# Altium integrated library WE-GF_rev15b.intlib: 65 symbols
Pins are listed as number, name and electrical type; pins without a type are passive.

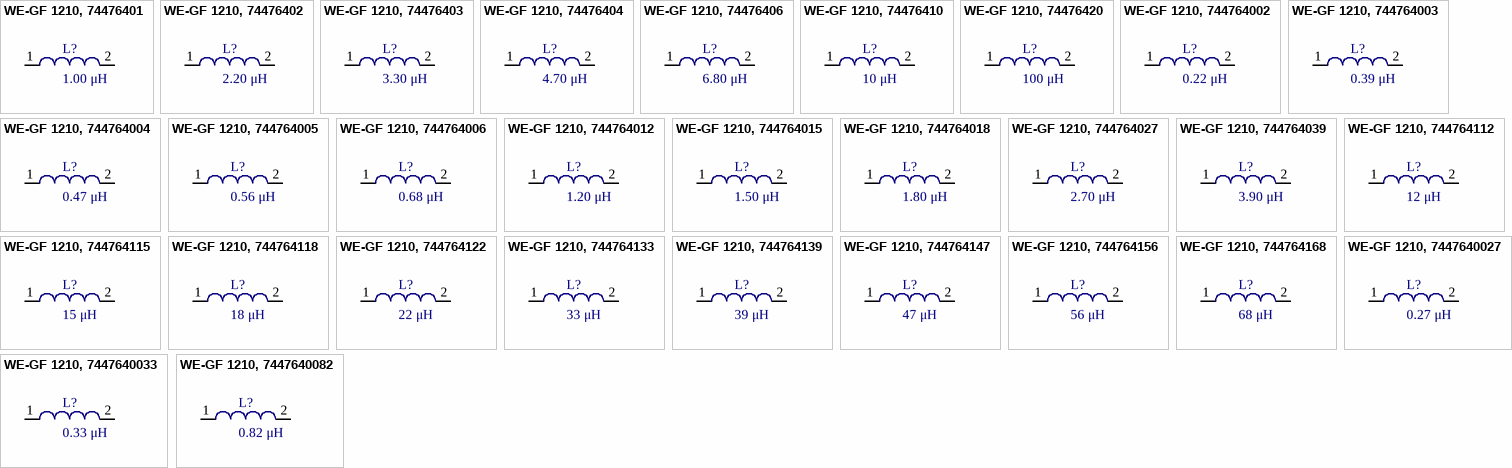
[diagram p0: symbols WE-GF 1210, 74476401 to WE-GF 1210, 7447640082]

## WE-GF 1210, 74476401
designator L?, comment 1.00 μH
WE-GF SMD Wire Wound Inductor, Inductance = 1.00 μH; partNo: 74476401; Manufactorer: Wurth Elektronik; Inductance: 1.00 μH; ComponentLink1Description: Manufacturer; ComponentLink1URL: http://www.we-online.de; Created by: Baojun Chen; Created Date: Nov.2015; ComponentLink2Description: Datasheet; ComponentLink2URL: http://katalog.we-online.de/pbs/datasheet/74476401.pdf
footprint WE-GF_1210
pins: 1, 2

## WE-GF 1210, 74476402
designator L?, comment 2.20 μH
WE-GF SMD Wire Wound Inductor, Inductance = 2.20 μH; partNo: 74476402; Manufactorer: Wurth Elektronik; Inductance: 2.20 μH; ComponentLink1Description: Manufacturer; ComponentLink1URL: http://www.we-online.de; Created by: Baojun Chen; Created Date: Nov.2015; ComponentLink2Description: Datasheet; ComponentLink2URL: http://katalog.we-online.de/pbs/datasheet/74476402.pdf
footprint WE-GF_1210
pins: 1, 2

## WE-GF 1210, 74476403
designator L?, comment 3.30 μH
WE-GF SMD Wire Wound Inductor, Inductance = 3.30 μH; partNo: 74476403; Manufactorer: Wurth Elektronik; Inductance: 3.30 μH; ComponentLink1Description: Manufacturer; ComponentLink1URL: http://www.we-online.de; Created by: Baojun Chen; Created Date: Nov.2015; ComponentLink2Description: Datasheet; ComponentLink2URL: http://katalog.we-online.de/pbs/datasheet/74476403.pdf
footprint WE-GF_1210
pins: 1, 2

## WE-GF 1210, 74476404
designator L?, comment 4.70 μH
WE-GF SMD Wire Wound Inductor, Inductance = 4.70 μH; partNo: 74476404; Manufactorer: Wurth Elektronik; Inductance: 4.70 μH; ComponentLink1Description: Manufacturer; ComponentLink1URL: http://www.we-online.de; Created by: Baojun Chen; Created Date: Nov.2015; ComponentLink2Description: Datasheet; ComponentLink2URL: http://katalog.we-online.de/pbs/datasheet/74476404.pdf
footprint WE-GF_1210
pins: 1, 2

## WE-GF 1210, 74476406
designator L?, comment 6.80 μH
WE-GF SMD Wire Wound Inductor, Inductance = 6.80 μH; partNo: 74476406; Manufactorer: Wurth Elektronik; Inductance: 6.80 μH; ComponentLink1Description: Manufacturer; ComponentLink1URL: http://www.we-online.de; Created by: Baojun Chen; Created Date: Nov.2015; ComponentLink2Description: Datasheet; ComponentLink2URL: http://katalog.we-online.de/pbs/datasheet/74476406.pdf
footprint WE-GF_1210
pins: 1, 2

## WE-GF 1210, 74476410
designator L?, comment 10 μH
WE-GF SMD Wire Wound Inductor, Inductance = 10 μH; partNo: 74476410; Manufactorer: Wurth Elektronik; Inductance: 10 μH; ComponentLink1Description: Manufacturer; ComponentLink1URL: http://www.we-online.de; Created by: Baojun Chen; Created Date: Nov.2015; ComponentLink2Description: Datasheet; ComponentLink2URL: http://katalog.we-online.de/pbs/datasheet/74476410.pdf
footprint WE-GF_1210
pins: 1, 2

## WE-GF 1210, 74476420
designator L?, comment 100 μH
WE-GF SMD Wire Wound Inductor, Inductance = 100 μH; partNo: 74476420; Manufactorer: Wurth Elektronik; Inductance: 100 μH; ComponentLink1Description: Manufacturer; ComponentLink1URL: http://www.we-online.de; Created by: Baojun Chen; Created Date: Nov.2015; ComponentLink2Description: Datasheet; ComponentLink2URL: http://katalog.we-online.de/pbs/datasheet/74476420.pdf
footprint WE-GF_1210
pins: 1, 2

## WE-GF 1210, 744764002
designator L?, comment 0.22 μH
WE-GF SMD Wire Wound Inductor, Inductance = 0.22 μH; partNo: 744764002; Manufactorer: Wurth Elektronik; Inductance: 0.22 μH; ComponentLink1Description: Manufacturer; ComponentLink1URL: http://www.we-online.de; Created by: Baojun Chen; Created Date: Nov.2015; ComponentLink2Description: Datasheet; ComponentLink2URL: http://katalog.we-online.de/pbs/datasheet/744764002.pdf
footprint WE-GF_1210
pins: 1, 2

## WE-GF 1210, 744764003
designator L?, comment 0.39 μH
WE-GF SMD Wire Wound Inductor, Inductance = 0.39 μH; partNo: 744764003; Manufactorer: Wurth Elektronik; Inductance: 0.39 μH; ComponentLink1Description: Manufacturer; ComponentLink1URL: http://www.we-online.de; Created by: Baojun Chen; Created Date: Nov.2015; ComponentLink2Description: Datasheet; ComponentLink2URL: http://katalog.we-online.de/pbs/datasheet/744764003.pdf
footprint WE-GF_1210
pins: 1, 2

## WE-GF 1210, 744764004
designator L?, comment 0.47 μH
WE-GF SMD Wire Wound Inductor, Inductance = 0.47 μH; partNo: 744764004; Manufactorer: Wurth Elektronik; Inductance: 0.47 μH; ComponentLink1Description: Manufacturer; ComponentLink1URL: http://www.we-online.de; Created by: Baojun Chen; Created Date: Nov.2015; ComponentLink2Description: Datasheet; ComponentLink2URL: http://katalog.we-online.de/pbs/datasheet/744764004.pdf
footprint WE-GF_1210
pins: 1, 2

## WE-GF 1210, 744764005
designator L?, comment 0.56 μH
WE-GF SMD Wire Wound Inductor, Inductance = 0.56 μH; partNo: 744764005; Manufactorer: Wurth Elektronik; Inductance: 0.56 μH; ComponentLink1Description: Manufacturer; ComponentLink1URL: http://www.we-online.de; Created by: Baojun Chen; Created Date: Nov.2015; ComponentLink2Description: Datasheet; ComponentLink2URL: http://katalog.we-online.de/pbs/datasheet/744764005.pdf
footprint WE-GF_1210
pins: 1, 2

## WE-GF 1210, 744764006
designator L?, comment 0.68 μH
WE-GF SMD Wire Wound Inductor, Inductance = 0.68 μH; partNo: 744764006; Manufactorer: Wurth Elektronik; Inductance: 0.68 μH; ComponentLink1Description: Manufacturer; ComponentLink1URL: http://www.we-online.de; Created by: Baojun Chen; Created Date: Nov.2015; ComponentLink2Description: Datasheet; ComponentLink2URL: http://katalog.we-online.de/pbs/datasheet/744764006.pdf
footprint WE-GF_1210
pins: 1, 2

## WE-GF 1210, 744764012
designator L?, comment 1.20 μH
WE-GF SMD Wire Wound Inductor, Inductance = 1.20 μH; partNo: 744764012; Manufactorer: Wurth Elektronik; Inductance: 1.20 μH; ComponentLink1Description: Manufacturer; ComponentLink1URL: http://www.we-online.de; Created by: Baojun Chen; Created Date: Nov.2015; ComponentLink2Description: Datasheet; ComponentLink2URL: http://katalog.we-online.de/pbs/datasheet/744764012.pdf
footprint WE-GF_1210
pins: 1, 2

## WE-GF 1210, 744764015
designator L?, comment 1.50 μH
WE-GF SMD Wire Wound Inductor, Inductance = 1.50 μH; partNo: 744764015; Manufactorer: Wurth Elektronik; Inductance: 1.50 μH; ComponentLink1Description: Manufacturer; ComponentLink1URL: http://www.we-online.de; Created by: Baojun Chen; Created Date: Nov.2015; ComponentLink2Description: Datasheet; ComponentLink2URL: http://katalog.we-online.de/pbs/datasheet/744764015.pdf
footprint WE-GF_1210
pins: 1, 2

## WE-GF 1210, 744764018
designator L?, comment 1.80 μH
WE-GF SMD Wire Wound Inductor, Inductance = 1.80 μH; partNo: 744764018; Manufactorer: Wurth Elektronik; Inductance: 1.80 μH; ComponentLink1Description: Manufacturer; ComponentLink1URL: http://www.we-online.de; Created by: Baojun Chen; Created Date: Nov.2015; ComponentLink2Description: Datasheet; ComponentLink2URL: http://katalog.we-online.de/pbs/datasheet/744764018.pdf
footprint WE-GF_1210
pins: 1, 2

## WE-GF 1210, 744764027
designator L?, comment 2.70 μH
WE-GF SMD Wire Wound Inductor, Inductance = 2.70 μH; partNo: 744764027; Manufactorer: Wurth Elektronik; Inductance: 2.70 μH; ComponentLink1Description: Manufacturer; ComponentLink1URL: http://www.we-online.de; Created by: Baojun Chen; Created Date: Nov.2015; ComponentLink2Description: Datasheet; ComponentLink2URL: http://katalog.we-online.de/pbs/datasheet/744764027.pdf
footprint WE-GF_1210
pins: 1, 2

## WE-GF 1210, 744764039
designator L?, comment 3.90 μH
WE-GF SMD Wire Wound Inductor, Inductance = 3.90 μH; partNo: 744764039; Manufactorer: Wurth Elektronik; Inductance: 3.90 μH; ComponentLink1Description: Manufacturer; ComponentLink1URL: http://www.we-online.de; Created by: Baojun Chen; Created Date: Nov.2015; ComponentLink2Description: Datasheet; ComponentLink2URL: http://katalog.we-online.de/pbs/datasheet/744764039.pdf
footprint WE-GF_1210
pins: 1, 2

## WE-GF 1210, 744764112
designator L?, comment 12 μH
WE-GF SMD Wire Wound Inductor, Inductance = 12 μH; partNo: 744764112; Manufactorer: Wurth Elektronik; Inductance: 12 μH; ComponentLink1Description: Manufacturer; ComponentLink1URL: http://www.we-online.de; Created by: Baojun Chen; Created Date: Nov.2015; ComponentLink2Description: Datasheet; ComponentLink2URL: http://katalog.we-online.de/pbs/datasheet/744764112.pdf
footprint WE-GF_1210
pins: 1, 2

## WE-GF 1210, 744764115
designator L?, comment 15 μH
WE-GF SMD Wire Wound Inductor, Inductance = 15 μH; partNo: 744764115; Manufactorer: Wurth Elektronik; Inductance: 15 μH; ComponentLink1Description: Manufacturer; ComponentLink1URL: http://www.we-online.de; Created by: Baojun Chen; Created Date: Nov.2015; ComponentLink2Description: Datasheet; ComponentLink2URL: http://katalog.we-online.de/pbs/datasheet/744764115.pdf
footprint WE-GF_1210
pins: 1, 2

## WE-GF 1210, 744764118
designator L?, comment 18 μH
WE-GF SMD Wire Wound Inductor, Inductance = 18 μH; partNo: 744764118; Manufactorer: Wurth Elektronik; Inductance: 18 μH; ComponentLink1Description: Manufacturer; ComponentLink1URL: http://www.we-online.de; Created by: Baojun Chen; Created Date: Nov.2015; ComponentLink2Description: Datasheet; ComponentLink2URL: http://katalog.we-online.de/pbs/datasheet/744764118.pdf
footprint WE-GF_1210
pins: 1, 2

## WE-GF 1210, 744764122
designator L?, comment 22 μH
WE-GF SMD Wire Wound Inductor, Inductance = 22 μH; partNo: 744764122; Manufactorer: Wurth Elektronik; Inductance: 22 μH; ComponentLink1Description: Manufacturer; ComponentLink1URL: http://www.we-online.de; Created by: Baojun Chen; Created Date: Nov.2015; ComponentLink2Description: Datasheet; ComponentLink2URL: http://katalog.we-online.de/pbs/datasheet/744764122.pdf
footprint WE-GF_1210
pins: 1, 2

## WE-GF 1210, 744764133
designator L?, comment 33 μH
WE-GF SMD Wire Wound Inductor, Inductance = 33 μH; partNo: 744764133; Manufactorer: Wurth Elektronik; Inductance: 33 μH; ComponentLink1Description: Manufacturer; ComponentLink1URL: http://www.we-online.de; Created by: Baojun Chen; Created Date: Nov.2015; ComponentLink2Description: Datasheet; ComponentLink2URL: http://katalog.we-online.de/pbs/datasheet/744764133.pdf
footprint WE-GF_1210
pins: 1, 2

## WE-GF 1210, 744764139
designator L?, comment 39 μH
WE-GF SMD Wire Wound Inductor, Inductance = 39 μH; partNo: 744764139; Manufactorer: Wurth Elektronik; Inductance: 39 μH; ComponentLink1Description: Manufacturer; ComponentLink1URL: http://www.we-online.de; Created by: Baojun Chen; Created Date: Nov.2015; ComponentLink2Description: Datasheet; ComponentLink2URL: http://katalog.we-online.de/pbs/datasheet/744764139.pdf
footprint WE-GF_1210
pins: 1, 2

## WE-GF 1210, 744764147
designator L?, comment 47 μH
WE-GF SMD Wire Wound Inductor, Inductance = 47 μH; partNo: 744764147; Manufactorer: Wurth Elektronik; Inductance: 47 μH; ComponentLink1Description: Manufacturer; ComponentLink1URL: http://www.we-online.de; Created by: Baojun Chen; Created Date: Nov.2015; ComponentLink2Description: Datasheet; ComponentLink2URL: http://katalog.we-online.de/pbs/datasheet/744764147.pdf
footprint WE-GF_1210
pins: 1, 2

## WE-GF 1210, 744764156
designator L?, comment 56 μH
WE-GF SMD Wire Wound Inductor, Inductance = 56 μH; partNo: 744764156; Manufactorer: Wurth Elektronik; Inductance: 56 μH; ComponentLink1Description: Manufacturer; ComponentLink1URL: http://www.we-online.de; Created by: Baojun Chen; Created Date: Nov.2015; ComponentLink2Description: Datasheet; ComponentLink2URL: http://katalog.we-online.de/pbs/datasheet/744764156.pdf
footprint WE-GF_1210
pins: 1, 2

## WE-GF 1210, 744764168
designator L?, comment 68 μH
WE-GF SMD Wire Wound Inductor, Inductance = 68 μH; partNo: 744764168; Manufactorer: Wurth Elektronik; Inductance: 68 μH; ComponentLink1Description: Manufacturer; ComponentLink1URL: http://www.we-online.de; Created by: Baojun Chen; Created Date: Nov.2015; ComponentLink2Description: Datasheet; ComponentLink2URL: http://katalog.we-online.de/pbs/datasheet/744764168.pdf
footprint WE-GF_1210
pins: 1, 2

## WE-GF 1210, 7447640027
designator L?, comment 0.27 μH
WE-GF SMD Wire Wound Inductor, Inductance = 0.27 μH; partNo: 7447640027; Manufactorer: Wurth Elektronik; Inductance: 0.27 μH; ComponentLink1Description: Manufacturer; ComponentLink1URL: http://www.we-online.de; Created by: Baojun Chen; Created Date: Nov.2015; ComponentLink2Description: Datasheet; ComponentLink2URL: http://katalog.we-online.de/pbs/datasheet/7447640027.pdf
footprint WE-GF_1210
pins: 1, 2

## WE-GF 1210, 7447640033
designator L?, comment 0.33 μH
WE-GF SMD Wire Wound Inductor, Inductance = 0.33 μH; partNo: 7447640033; Manufactorer: Wurth Elektronik; Inductance: 0.33 μH; ComponentLink1Description: Manufacturer; ComponentLink1URL: http://www.we-online.de; Created by: Baojun Chen; Created Date: Nov.2015; ComponentLink2Description: Datasheet; ComponentLink2URL: http://katalog.we-online.de/pbs/datasheet/7447640033.pdf
footprint WE-GF_1210
pins: 1, 2

## WE-GF 1210, 7447640082
designator L?, comment 0.82 μH
WE-GF SMD Wire Wound Inductor, Inductance = 0.82 μH; partNo: 7447640082; Manufactorer: Wurth Elektronik; Inductance: 0.82 μH; ComponentLink1Description: Manufacturer; ComponentLink1URL: http://www.we-online.de; Created by: Baojun Chen; Created Date: Nov.2015; ComponentLink2Description: Datasheet; ComponentLink2URL: http://katalog.we-online.de/pbs/datasheet/7447640082.pdf
footprint WE-GF_1210
pins: 1, 2


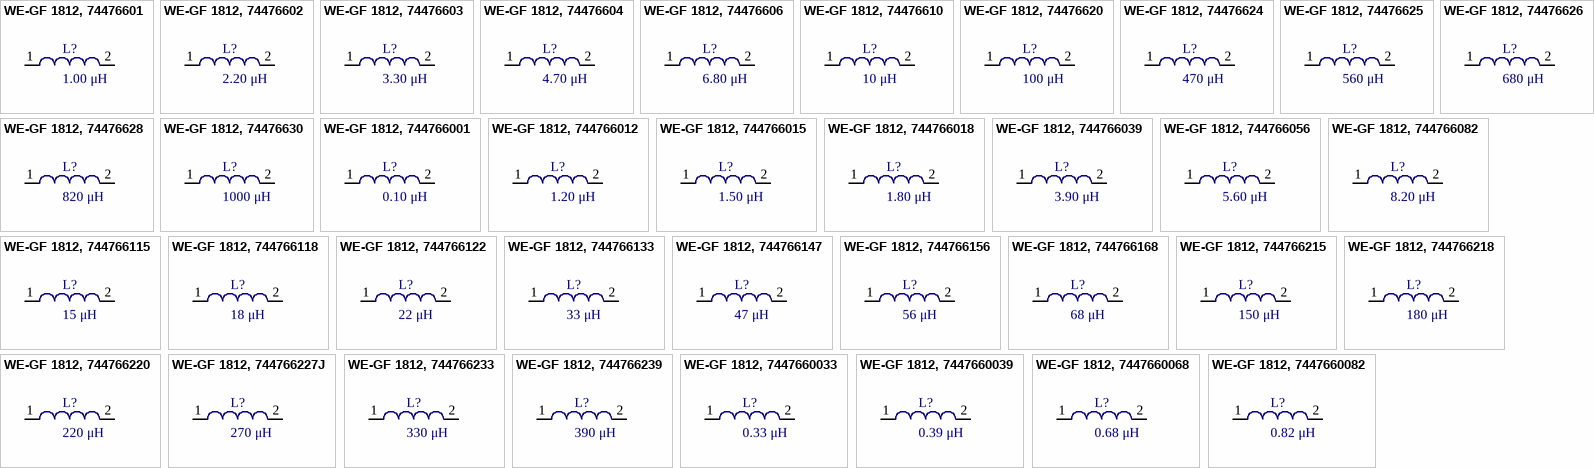
[diagram p1: symbols WE-GF 1812, 74476601 to WE-GF 1812, 7447660082]

## WE-GF 1812, 74476601
designator L?, comment 1.00 μH
WE-GF SMD Wire Wound Inductor, Inductance = 1.00 μH; partNo: 74476601; Manufactorer: Wurth Elektronik; Inductance: 1.00 μH; ComponentLink1Description: Manufacturer; ComponentLink1URL: http://www.we-online.de; Created by: Baojun Chen; Created Date: Nov.2015; ComponentLink2Description: Datasheet; ComponentLink2URL: http://katalog.we-online.de/pbs/datasheet/74476601.pdf
footprint WE-GF_1812
pins: 1, 2

## WE-GF 1812, 74476602
designator L?, comment 2.20 μH
WE-GF SMD Wire Wound Inductor, Inductance = 2.20 μH; partNo: 74476602; Manufactorer: Wurth Elektronik; Inductance: 2.20 μH; ComponentLink1Description: Manufacturer; ComponentLink1URL: http://www.we-online.de; Created by: Baojun Chen; Created Date: Nov.2015; ComponentLink2Description: Datasheet; ComponentLink2URL: http://katalog.we-online.de/pbs/datasheet/74476602.pdf
footprint WE-GF_1812
pins: 1, 2

## WE-GF 1812, 74476603
designator L?, comment 3.30 μH
WE-GF SMD Wire Wound Inductor, Inductance = 3.30 μH; partNo: 74476603; Manufactorer: Wurth Elektronik; Inductance: 3.30 μH; ComponentLink1Description: Manufacturer; ComponentLink1URL: http://www.we-online.de; Created by: Baojun Chen; Created Date: Nov.2015; ComponentLink2Description: Datasheet; ComponentLink2URL: http://katalog.we-online.de/pbs/datasheet/74476603.pdf
footprint WE-GF_1812
pins: 1, 2

## WE-GF 1812, 74476604
designator L?, comment 4.70 μH
WE-GF SMD Wire Wound Inductor, Inductance = 4.70 μH; partNo: 74476604; Manufactorer: Wurth Elektronik; Inductance: 4.70 μH; ComponentLink1Description: Manufacturer; ComponentLink1URL: http://www.we-online.de; Created by: Baojun Chen; Created Date: Nov.2015; ComponentLink2Description: Datasheet; ComponentLink2URL: http://katalog.we-online.de/pbs/datasheet/74476604.pdf
footprint WE-GF_1812
pins: 1, 2

## WE-GF 1812, 74476606
designator L?, comment 6.80 μH
WE-GF SMD Wire Wound Inductor, Inductance = 6.80 μH; partNo: 74476606; Manufactorer: Wurth Elektronik; Inductance: 6.80 μH; ComponentLink1Description: Manufacturer; ComponentLink1URL: http://www.we-online.de; Created by: Baojun Chen; Created Date: Nov.2015; ComponentLink2Description: Datasheet; ComponentLink2URL: http://katalog.we-online.de/pbs/datasheet/74476606.pdf
footprint WE-GF_1812
pins: 1, 2

## WE-GF 1812, 74476610
designator L?, comment 10 μH
WE-GF SMD Wire Wound Inductor, Inductance = 10 μH; partNo: 74476610; Manufactorer: Wurth Elektronik; Inductance: 10 μH; ComponentLink1Description: Manufacturer; ComponentLink1URL: http://www.we-online.de; Created by: Baojun Chen; Created Date: Nov.2015; ComponentLink2Description: Datasheet; ComponentLink2URL: http://katalog.we-online.de/pbs/datasheet/74476610.pdf
footprint WE-GF_1812
pins: 1, 2

## WE-GF 1812, 74476620
designator L?, comment 100 μH
WE-GF SMD Wire Wound Inductor, Inductance = 100 μH; partNo: 74476620; Manufactorer: Wurth Elektronik; Inductance: 100 μH; ComponentLink1Description: Manufacturer; ComponentLink1URL: http://www.we-online.de; Created by: Baojun Chen; Created Date: Nov.2015; ComponentLink2Description: Datasheet; ComponentLink2URL: http://katalog.we-online.de/pbs/datasheet/74476620.pdf
footprint WE-GF_1812
pins: 1, 2

## WE-GF 1812, 74476624
designator L?, comment 470 μH
WE-GF SMD Wire Wound Inductor, Inductance = 470 μH; partNo: 74476624; Manufactorer: Wurth Elektronik; Inductance: 470 μH; ComponentLink1Description: Manufacturer; ComponentLink1URL: http://www.we-online.de; Created by: Baojun Chen; Created Date: Nov.2015; ComponentLink2Description: Datasheet; ComponentLink2URL: http://katalog.we-online.de/pbs/datasheet/74476624.pdf
footprint WE-GF_1812
pins: 1, 2

## WE-GF 1812, 74476625
designator L?, comment 560 μH
WE-GF SMD Wire Wound Inductor, Inductance = 560 μH; partNo: 74476625; Manufactorer: Wurth Elektronik; Inductance: 560 μH; ComponentLink1Description: Manufacturer; ComponentLink1URL: http://www.we-online.de; Created by: Baojun Chen; Created Date: Nov.2015; ComponentLink2Description: Datasheet; ComponentLink2URL: http://katalog.we-online.de/pbs/datasheet/74476625.pdf
footprint WE-GF_1812
pins: 1, 2

## WE-GF 1812, 74476626
designator L?, comment 680 μH
WE-GF SMD Wire Wound Inductor, Inductance = 680 μH; partNo: 74476626; Manufactorer: Wurth Elektronik; Inductance: 680 μH; ComponentLink1Description: Manufacturer; ComponentLink1URL: http://www.we-online.de; Created by: Baojun Chen; Created Date: Nov.2015; ComponentLink2Description: Datasheet; ComponentLink2URL: http://katalog.we-online.de/pbs/datasheet/74476626.pdf
footprint WE-GF_1812
pins: 1, 2

## WE-GF 1812, 74476628
designator L?, comment 820 μH
WE-GF SMD Wire Wound Inductor, Inductance = 820 μH; partNo: 74476628; Manufactorer: Wurth Elektronik; Inductance: 820 μH; ComponentLink1Description: Manufacturer; ComponentLink1URL: http://www.we-online.de; Created by: Baojun Chen; Created Date: Nov.2015; ComponentLink2Description: Datasheet; ComponentLink2URL: http://katalog.we-online.de/pbs/datasheet/74476628.pdf
footprint WE-GF_1812
pins: 1, 2

## WE-GF 1812, 74476630
designator L?, comment 1000 μH
WE-GF SMD Wire Wound Inductor, Inductance = 1000 μH; partNo: 74476630; Manufactorer: Wurth Elektronik; Inductance: 1000 μH; ComponentLink1Description: Manufacturer; ComponentLink1URL: http://www.we-online.de; Created by: Baojun Chen; Created Date: Nov.2015; ComponentLink2Description: Datasheet; ComponentLink2URL: http://katalog.we-online.de/pbs/datasheet/74476630.pdf
footprint WE-GF_1812
pins: 1, 2

## WE-GF 1812, 744766001
designator L?, comment 0.10 μH
WE-GF SMD Wire Wound Inductor, Inductance = 0.10 μH; partNo: 744766001; Manufactorer: Wurth Elektronik; Inductance: 0.10 μH; ComponentLink1Description: Manufacturer; ComponentLink1URL: http://www.we-online.de; Created by: Baojun Chen; Created Date: Nov.2015; ComponentLink2Description: Datasheet; ComponentLink2URL: http://katalog.we-online.de/pbs/datasheet/744766001.pdf
footprint WE-GF_1812
pins: 1, 2

## WE-GF 1812, 744766012
designator L?, comment 1.20 μH
WE-GF SMD Wire Wound Inductor, Inductance = 1.20 μH; partNo: 744766012; Manufactorer: Wurth Elektronik; Inductance: 1.20 μH; ComponentLink1Description: Manufacturer; ComponentLink1URL: http://www.we-online.de; Created by: Baojun Chen; Created Date: Nov.2015; ComponentLink2Description: Datasheet; ComponentLink2URL: http://katalog.we-online.de/pbs/datasheet/744766012.pdf
footprint WE-GF_1812
pins: 1, 2

## WE-GF 1812, 744766015
designator L?, comment 1.50 μH
WE-GF SMD Wire Wound Inductor, Inductance = 1.50 μH; partNo: 744766015; Manufactorer: Wurth Elektronik; Inductance: 1.50 μH; ComponentLink1Description: Manufacturer; ComponentLink1URL: http://www.we-online.de; Created by: Baojun Chen; Created Date: Nov.2015; ComponentLink2Description: Datasheet; ComponentLink2URL: http://katalog.we-online.de/pbs/datasheet/744766015.pdf
footprint WE-GF_1812
pins: 1, 2

## WE-GF 1812, 744766018
designator L?, comment 1.80 μH
WE-GF SMD Wire Wound Inductor, Inductance = 1.80 μH; partNo: 744766018; Manufactorer: Wurth Elektronik; Inductance: 1.80 μH; ComponentLink1Description: Manufacturer; ComponentLink1URL: http://www.we-online.de; Created by: Baojun Chen; Created Date: Nov.2015; ComponentLink2Description: Datasheet; ComponentLink2URL: http://katalog.we-online.de/pbs/datasheet/744766018.pdf
footprint WE-GF_1812
pins: 1, 2

## WE-GF 1812, 744766039
designator L?, comment 3.90 μH
WE-GF SMD Wire Wound Inductor, Inductance = 3.90 μH; partNo: 744766039; Manufactorer: Wurth Elektronik; Inductance: 3.90 μH; ComponentLink1Description: Manufacturer; ComponentLink1URL: http://www.we-online.de; Created by: Baojun Chen; Created Date: Nov.2015; ComponentLink2Description: Datasheet; ComponentLink2URL: http://katalog.we-online.de/pbs/datasheet/744766039.pdf
footprint WE-GF_1812
pins: 1, 2

## WE-GF 1812, 744766056
designator L?, comment 5.60 μH
WE-GF SMD Wire Wound Inductor, Inductance = 5.60 μH; partNo: 744766056; Manufactorer: Wurth Elektronik; Inductance: 5.60 μH; ComponentLink1Description: Manufacturer; ComponentLink1URL: http://www.we-online.de; Created by: Baojun Chen; Created Date: Nov.2015; ComponentLink2Description: Datasheet; ComponentLink2URL: http://katalog.we-online.de/pbs/datasheet/744766056.pdf
footprint WE-GF_1812
pins: 1, 2

## WE-GF 1812, 744766082
designator L?, comment 8.20 μH
WE-GF SMD Wire Wound Inductor, Inductance = 8.20 μH; partNo: 744766082; Manufactorer: Wurth Elektronik; Inductance: 8.20 μH; ComponentLink1Description: Manufacturer; ComponentLink1URL: http://www.we-online.de; Created by: Baojun Chen; Created Date: Nov.2015; ComponentLink2Description: Datasheet; ComponentLink2URL: http://katalog.we-online.de/pbs/datasheet/744766082.pdf
footprint WE-GF_1812
pins: 1, 2

## WE-GF 1812, 744766115
designator L?, comment 15 μH
WE-GF SMD Wire Wound Inductor, Inductance = 15 μH; partNo: 744766115; Manufactorer: Wurth Elektronik; Inductance: 15 μH; ComponentLink1Description: Manufacturer; ComponentLink1URL: http://www.we-online.de; Created by: Baojun Chen; Created Date: Nov.2015; ComponentLink2Description: Datasheet; ComponentLink2URL: http://katalog.we-online.de/pbs/datasheet/744766115.pdf
footprint WE-GF_1812
pins: 1, 2

## WE-GF 1812, 744766118
designator L?, comment 18 μH
WE-GF SMD Wire Wound Inductor, Inductance = 18 μH; partNo: 744766118; Manufactorer: Wurth Elektronik; Inductance: 18 μH; ComponentLink1Description: Manufacturer; ComponentLink1URL: http://www.we-online.de; Created by: Baojun Chen; Created Date: Nov.2015; ComponentLink2Description: Datasheet; ComponentLink2URL: http://katalog.we-online.de/pbs/datasheet/744766118.pdf
footprint WE-GF_1812
pins: 1, 2

## WE-GF 1812, 744766122
designator L?, comment 22 μH
WE-GF SMD Wire Wound Inductor, Inductance = 22 μH; partNo: 744766122; Manufactorer: Wurth Elektronik; Inductance: 22 μH; ComponentLink1Description: Manufacturer; ComponentLink1URL: http://www.we-online.de; Created by: Baojun Chen; Created Date: Nov.2015; ComponentLink2Description: Datasheet; ComponentLink2URL: http://katalog.we-online.de/pbs/datasheet/744766122.pdf
footprint WE-GF_1812
pins: 1, 2

## WE-GF 1812, 744766133
designator L?, comment 33 μH
WE-GF SMD Wire Wound Inductor, Inductance = 33 μH; partNo: 744766133; Manufactorer: Wurth Elektronik; Inductance: 33 μH; ComponentLink1Description: Manufacturer; ComponentLink1URL: http://www.we-online.de; Created by: Baojun Chen; Created Date: Nov.2015; ComponentLink2Description: Datasheet; ComponentLink2URL: http://katalog.we-online.de/pbs/datasheet/744766133.pdf
footprint WE-GF_1812
pins: 1, 2

## WE-GF 1812, 744766147
designator L?, comment 47 μH
WE-GF SMD Wire Wound Inductor, Inductance = 47 μH; partNo: 744766147; Manufactorer: Wurth Elektronik; Inductance: 47 μH; ComponentLink1Description: Manufacturer; ComponentLink1URL: http://www.we-online.de; Created by: Baojun Chen; Created Date: Nov.2015; ComponentLink2Description: Datasheet; ComponentLink2URL: http://katalog.we-online.de/pbs/datasheet/744766147.pdf
footprint WE-GF_1812
pins: 1, 2

## WE-GF 1812, 744766156
designator L?, comment 56 μH
WE-GF SMD Wire Wound Inductor, Inductance = 56 μH; partNo: 744766156; Manufactorer: Wurth Elektronik; Inductance: 56 μH; ComponentLink1Description: Manufacturer; ComponentLink1URL: http://www.we-online.de; Created by: Baojun Chen; Created Date: Nov.2015; ComponentLink2Description: Datasheet; ComponentLink2URL: http://katalog.we-online.de/pbs/datasheet/744766156.pdf
footprint WE-GF_1812
pins: 1, 2

## WE-GF 1812, 744766168
designator L?, comment 68 μH
WE-GF SMD Wire Wound Inductor, Inductance = 68 μH; partNo: 744766168; Manufactorer: Wurth Elektronik; Inductance: 68 μH; ComponentLink1Description: Manufacturer; ComponentLink1URL: http://www.we-online.de; Created by: Baojun Chen; Created Date: Nov.2015; ComponentLink2Description: Datasheet; ComponentLink2URL: http://katalog.we-online.de/pbs/datasheet/744766168.pdf
footprint WE-GF_1812
pins: 1, 2

## WE-GF 1812, 744766215
designator L?, comment 150 μH
WE-GF SMD Wire Wound Inductor, Inductance = 150 μH; partNo: 744766215; Manufactorer: Wurth Elektronik; Inductance: 150 μH; ComponentLink1Description: Manufacturer; ComponentLink1URL: http://www.we-online.de; Created by: Baojun Chen; Created Date: Nov.2015; ComponentLink2Description: Datasheet; ComponentLink2URL: http://katalog.we-online.de/pbs/datasheet/744766215.pdf
footprint WE-GF_1812
pins: 1, 2

## WE-GF 1812, 744766218
designator L?, comment 180 μH
WE-GF SMD Wire Wound Inductor, Inductance = 180 μH; partNo: 744766218; Manufactorer: Wurth Elektronik; Inductance: 180 μH; ComponentLink1Description: Manufacturer; ComponentLink1URL: http://www.we-online.de; Created by: Baojun Chen; Created Date: Nov.2015; ComponentLink2Description: Datasheet; ComponentLink2URL: http://katalog.we-online.de/pbs/datasheet/744766218.pdf
footprint WE-GF_1812
pins: 1, 2

## WE-GF 1812, 744766220
designator L?, comment 220 μH
WE-GF SMD Wire Wound Inductor, Inductance = 220 μH; partNo: 744766220; Manufactorer: Wurth Elektronik; Inductance: 220 μH; ComponentLink1Description: Manufacturer; ComponentLink1URL: http://www.we-online.de; Created by: Baojun Chen; Created Date: Nov.2015; ComponentLink2Description: Datasheet; ComponentLink2URL: http://katalog.we-online.de/pbs/datasheet/744766220.pdf
footprint WE-GF_1812
pins: 1, 2

## WE-GF 1812, 744766227J
designator L?, comment 270 μH
WE-GF SMD Wire Wound Inductor, Inductance = 270 μH; partNo: 744766227J; Manufactorer: Wurth Elektronik; Inductance: 270 μH; ComponentLink1Description: Manufacturer; ComponentLink1URL: http://www.we-online.de; Created by: Baojun Chen; Created Date: Nov.2015; ComponentLink2Description: Datasheet; ComponentLink2URL: http://katalog.we-online.de/pbs/datasheet/744766227J.pdf
footprint WE-GF_1812
pins: 1, 2

## WE-GF 1812, 744766233
designator L?, comment 330 μH
WE-GF SMD Wire Wound Inductor, Inductance = 330 μH; partNo: 744766233; Manufactorer: Wurth Elektronik; Inductance: 330 μH; ComponentLink1Description: Manufacturer; ComponentLink1URL: http://www.we-online.de; Created by: Baojun Chen; Created Date: Nov.2015; ComponentLink2Description: Datasheet; ComponentLink2URL: http://katalog.we-online.de/pbs/datasheet/744766233.pdf
footprint WE-GF_1812
pins: 1, 2

## WE-GF 1812, 744766239
designator L?, comment 390 μH
WE-GF SMD Wire Wound Inductor, Inductance = 390 μH; partNo: 744766239; Manufactorer: Wurth Elektronik; Inductance: 390 μH; ComponentLink1Description: Manufacturer; ComponentLink1URL: http://www.we-online.de; Created by: Baojun Chen; Created Date: Nov.2015; ComponentLink2Description: Datasheet; ComponentLink2URL: http://katalog.we-online.de/pbs/datasheet/744766239.pdf
footprint WE-GF_1812
pins: 1, 2

## WE-GF 1812, 7447660033
designator L?, comment 0.33 μH
WE-GF SMD Wire Wound Inductor, Inductance = 0.33 μH; partNo: 7447660033; Manufactorer: Wurth Elektronik; Inductance: 0.33 μH; ComponentLink1Description: Manufacturer; ComponentLink1URL: http://www.we-online.de; Created by: Baojun Chen; Created Date: Nov.2015; ComponentLink2Description: Datasheet; ComponentLink2URL: http://katalog.we-online.de/pbs/datasheet/7447660033.pdf
footprint WE-GF_1812
pins: 1, 2

## WE-GF 1812, 7447660039
designator L?, comment 0.39 μH
WE-GF SMD Wire Wound Inductor, Inductance = 0.39 μH; partNo: 7447660039; Manufactorer: Wurth Elektronik; Inductance: 0.39 μH; ComponentLink1Description: Manufacturer; ComponentLink1URL: http://www.we-online.de; Created by: Baojun Chen; Created Date: Nov.2015; ComponentLink2Description: Datasheet; ComponentLink2URL: http://katalog.we-online.de/pbs/datasheet/7447660039.pdf
footprint WE-GF_1812
pins: 1, 2

## WE-GF 1812, 7447660068
designator L?, comment 0.68 μH
WE-GF SMD Wire Wound Inductor, Inductance = 0.68 μH; partNo: 7447660068; Manufactorer: Wurth Elektronik; Inductance: 0.68 μH; ComponentLink1Description: Manufacturer; ComponentLink1URL: http://www.we-online.de; Created by: Baojun Chen; Created Date: Nov.2015; ComponentLink2Description: Datasheet; ComponentLink2URL: http://katalog.we-online.de/pbs/datasheet/7447660068.pdf
footprint WE-GF_1812
pins: 1, 2

## WE-GF 1812, 7447660082
designator L?, comment 0.82 μH
WE-GF SMD Wire Wound Inductor, Inductance = 0.82 μH; partNo: 7447660082; Manufactorer: Wurth Elektronik; Inductance: 0.82 μH; ComponentLink1Description: Manufacturer; ComponentLink1URL: http://www.we-online.de; Created by: Baojun Chen; Created Date: Nov.2015; ComponentLink2Description: Datasheet; ComponentLink2URL: http://katalog.we-online.de/pbs/datasheet/7447660082.pdf
footprint WE-GF_1812
pins: 1, 2